# Altium footprint library BEESC_footprints.PcbLib: 20 footprints (part 1 of 2)
Each footprint in its own frame and in the unit in brackets; x right, y up, seen from the top. Pads: shape width x height; smd on the part's side, far side on the other; paste and mask are expansions set on the pad; w line width, h text height; cw(c..) or ccw(c..) is an arc to the next point about the centre after c.
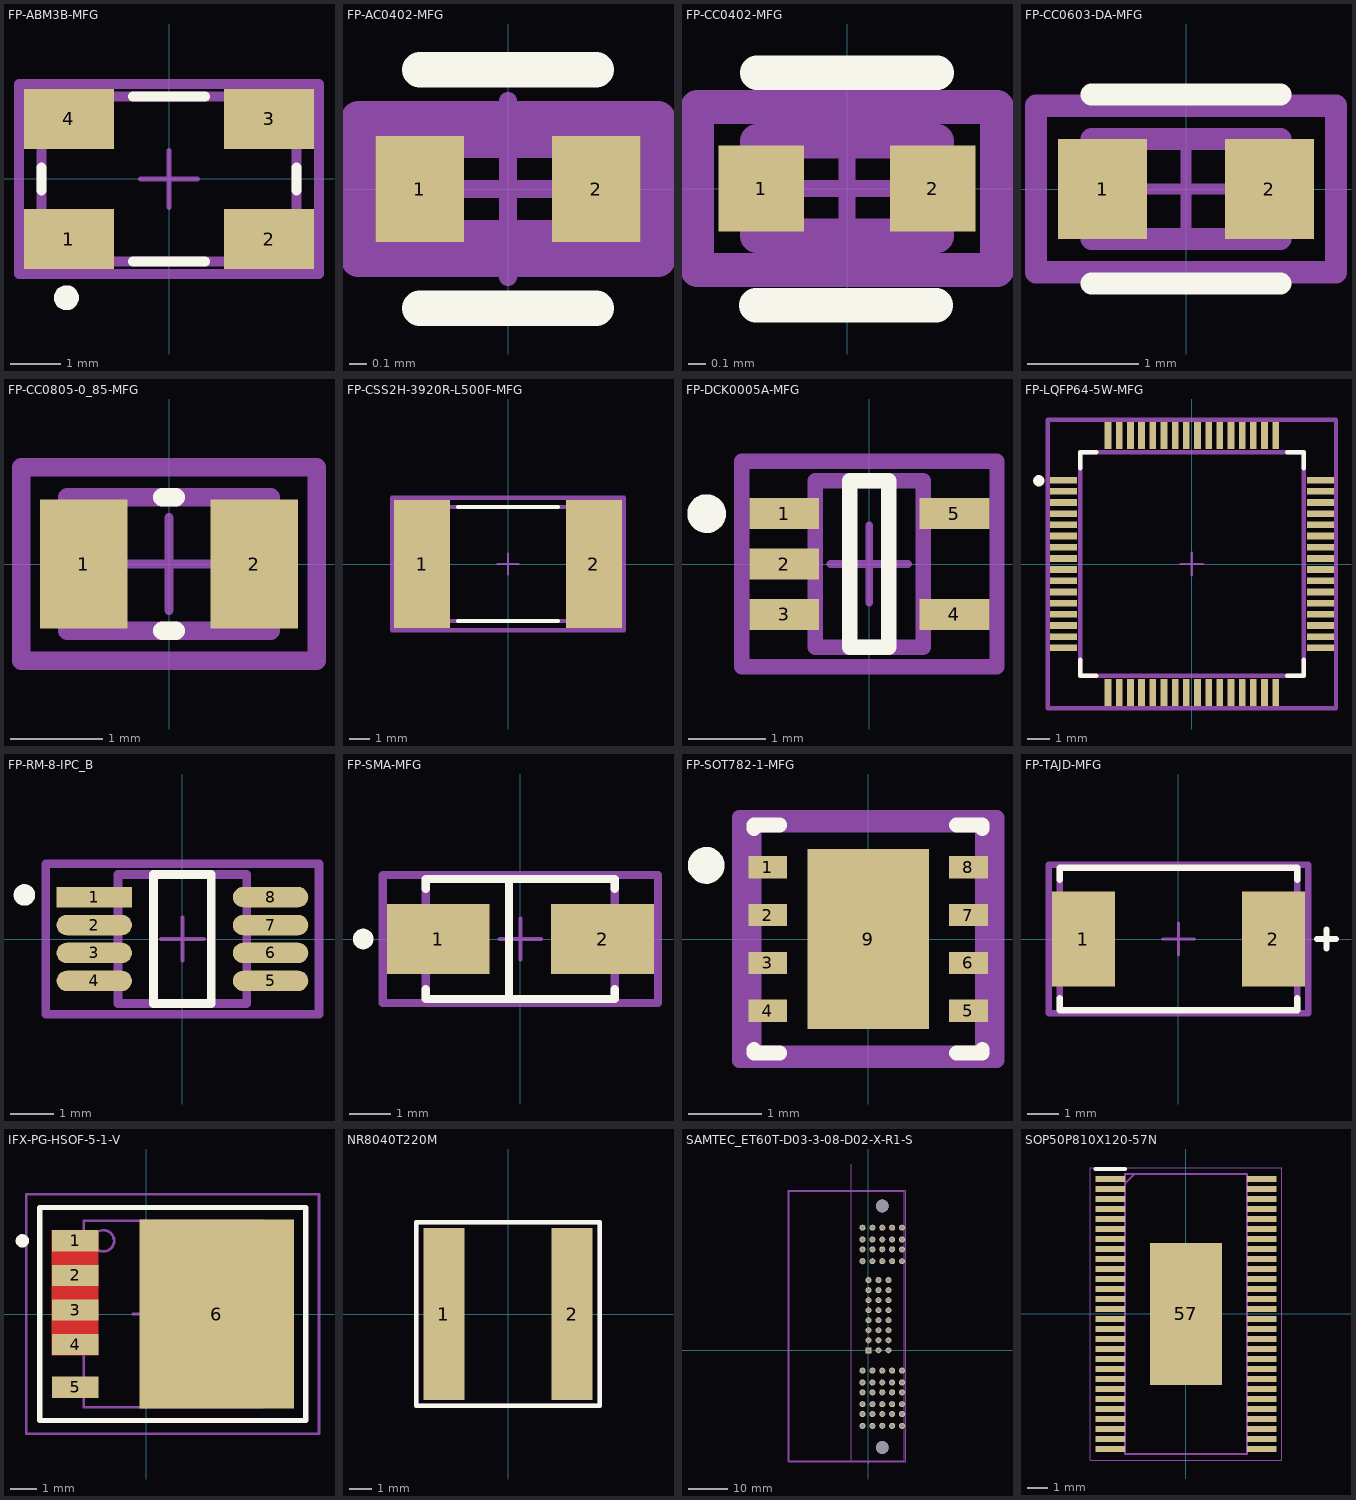
[diagram p0: the footprints below, top view; thin cyan lines are the x and y axes]

## FP-ABM3B-MFG [mm]
pads (4):
  rect 1.8x1.2 smd paste+0 mask+0: 1(-2,-1.2) 2(2,-1.2) 3(2,1.2) 4(-2,1.2)
Top Overlay:
  circle w0.25: c-2.05,-2.375 r0.125
  lines w0.2: -2.55,-0.225 -2.55,0.225 ; -0.725,-1.65 0.725,-1.65 ; -0.725,1.65 0.725,1.65 ; 2.55,-0.225 2.55,0.225
Top Assembly:
  lines w0.2: -3,-1.9 -3,1.9 3,1.9 3,-1.9 -3,-1.9
Top 3D Body:
  lines w0.2: -2.55,-1.65 -2.55,1.65 2.55,1.65 2.55,-1.65 -2.55,-1.65
Top Courtyard:
  lines w0.2: -3,-1.9 -3,1.9 3,1.9 3,-1.9 -3,-1.9
Top Component Center:
  lines w0.1: -0.57,0 0.57,0 ; 0,-0.57 0,0.57
3D body "Crys_Abracon_ABM3B-12_000MHZ-10-B-1-U-T_eec.STEP": height 0.25, standoff 0, extent -3,-1.9 3,1.9

## FP-AC0402-MFG [mm]
pads (2):
  rect 0.5x0.6 smd paste+0 mask+0: 1(-0.5,0) 2(0.5,0)
Top Overlay:
  lines w0.2: -0.5,-0.675 0.5,-0.675 ; -0.5,0.675 0.5,0.675
Top Assembly:
  lines w0.2: -0.85,-0.4 -0.85,0.4 0.85,0.4 0.85,-0.4 -0.85,-0.4
Top 3D Body:
  lines w0.2: -0.525,-0.275 -0.525,0.275 0.525,0.275 0.525,-0.275 -0.525,-0.275
Top Courtyard:
  lines w0.2: -0.85,-0.4 -0.85,0.4 0.85,0.4 0.85,-0.4 -0.85,-0.4
Top Component Center:
  lines w0.1: -0.5,0 0.5,0 ; 0,-0.5 0,0.5
3D body "Res_Yageo_AC0402FR-0716R2L_eec.STEP": height 0.25, standoff 0, extent -0.85,-0.4 0.85,0.4

## FP-CC0402-MFG [mm]
pads (2):
  rect 0.5x0.5 smd paste+0 mask+0: 1(-0.5,0) 2(0.5,0)
Top Overlay:
  lines w0.2: -0.53,-0.681 0.52,-0.681 ; -0.525,0.675 0.525,0.675
Top Assembly:
  lines w0.2: -0.875,-0.475 0.875,-0.475 0.875,0.475 -0.875,0.475 -0.875,-0.475
Top 3D Body:
  lines w0.2: -0.525,-0.275 0.525,-0.275 0.525,0.275 -0.525,0.275 -0.525,-0.275
Top Courtyard:
  lines w0.2: -0.875,-0.475 0.875,-0.475 0.875,0.475 -0.875,0.475 -0.875,-0.475
Top Component Center:
  lines w0.1: -0.5,0 0.5,0 ; 0,-0.5 0,0.5
3D body "Cap_YAGEO_CC0402KRX7R9BB101_eec.STEP": height 0.25, standoff 0, extent -0.875,-0.475 0.875,0.475

## FP-CC0603-DA-MFG [mm]
pads (2):
  rect 0.8x0.9 smd paste+0 mask+0: 1(-0.75,0) 2(0.75,0)
Top Overlay:
  lines w0.2: -0.85,-0.85 0.85,-0.85 ; -0.85,0.85 0.85,0.85
Top Assembly:
  lines w0.2: -1.35,-0.75 1.35,-0.75 1.35,0.75 -1.35,0.75 -1.35,-0.75
Top 3D Body:
  lines w0.2: -0.85,-0.45 0.85,-0.45 0.85,0.45 -0.85,0.45 -0.85,-0.45
Top Courtyard:
  lines w0.2: -1.35,-0.75 1.35,-0.75 1.35,0.75 -1.35,0.75 -1.35,-0.75
Top Component Center:
  lines w0.1: -0.5,0 0.5,0 ; 0,-0.5 0,0.5
3D body "Cap_YAGEO_CC0603KRX7R9BB271_eec.STEP": height 0.25, standoff 0, extent -1.35,-0.75 1.35,0.75

## FP-CC0805-0_85-MFG [mm]
pads (2):
  rect 0.95x1.4 smd paste+0 mask+0: 1(-0.925,0) 2(0.925,0)
Top Overlay:
  lines w0.2: -0.075,-0.725 0.075,-0.725 ; -0.075,0.725 0.075,0.725
Top Assembly:
  lines w0.2: -1.6,-1.05 1.6,-1.05 1.6,1.05 -1.6,1.05 -1.6,-1.05
Top 3D Body:
  lines w0.2: -1.1,-0.725 1.1,-0.725 1.1,0.725 -1.1,0.725 -1.1,-0.725
Top Courtyard:
  lines w0.2: -1.6,-1.05 1.6,-1.05 1.6,1.05 -1.6,1.05 -1.6,-1.05
Top Component Center:
  lines w0.1: -0.5,0 0.5,0 ; 0,-0.5 0,0.5
3D body "Cap_Yageo_CC0805KKX7R7BB105_eec.STEP": height 0.25, standoff 0, extent -1.6,-1.05 1.6,1.05

## FP-CSS2H-3920R-L500F-MFG [mm]
pads (2):
  rect 2.7x6.2 smd paste+0 mask+0: 1(-4.15,0) 2(4.15,0)
Top Overlay:
  lines w0.2: -2.425,-2.75 2.425,-2.75 ; -2.425,2.75 2.425,2.75
Top Assembly:
  lines w0.2: -5.6,-3.2 -5.6,3.2 5.6,3.2 5.6,-3.2 -5.6,-3.2
Top 3D Body:
  lines w0.2: -5.15,-2.75 -5.15,2.75 5.15,2.75 5.15,-2.75 -5.15,-2.75
Top Courtyard:
  lines w0.2: -5.6,-3.2 -5.6,3.2 5.6,3.2 5.6,-3.2 -5.6,-3.2
Top Component Center:
  lines w0.1: -0.5,0 0.5,0 ; 0,-0.5 0,0.5
3D body "Res_Bourns_CSS2H-3920R-L500F_eec.STEP": height 0.25, standoff 0, extent -5.6,-3.2 5.6,3.2

## FP-DCK0005A-MFG [mm]
pads (5):
  rect 0.9x0.4 smd paste-1000 mask+0: 1(-1.1,0.65) 2(-1.1,0) 3(-1.1,-0.65) 4(1.1,-0.65) 5(1.1,0.65)
Top Overlay:
  circle w0.25: c-2.1,0.65 r0.125
  lines w0.2: -0.25,-1.075 -0.25,1.075 0.25,1.075 0.25,-1.075 -0.25,-1.075
Top Paste:
  rectangle: -1.525,0.475 -0.675,0.825
  rectangle: -1.525,-0.175 -0.675,0.175
  rectangle: -1.525,-0.825 -0.675,-0.475
  rectangle: 0.675,0.475 1.525,0.825
  rectangle: 0.675,-0.825 1.525,-0.475
Top Assembly:
  lines w0.2: -1.65,-1.325 -1.65,1.325 1.65,1.325 1.65,-1.325 -1.65,-1.325
Top 3D Body:
  lines w0.2: -0.7,-1.075 -0.7,1.075 0.7,1.075 0.7,-1.075 -0.7,-1.075
Top Courtyard:
  lines w0.2: -1.65,-1.325 -1.65,1.325 1.65,1.325 1.65,-1.325 -1.65,-1.325
Top Component Center:
  lines w0.1: -0.5,0 0.5,0 ; 0,-0.5 0,0.5
3D body "IC_Texas_Instruments_SN74LVC1G86DCKR_eec.STEP": height 0.25, standoff 0, extent -1.65,-1.325 1.65,1.325

## FP-LQFP64-5W-MFG [mm]
pads (64):
  rect 1.2x0.3 smd paste+0 mask+0: 1(-5.75,3.75) 2(-5.75,3.25) 3(-5.75,2.75) 4(-5.75,2.25) 5(-5.75,1.75) 6(-5.75,1.25) 7(-5.75,0.75) 8(-5.75,0.25) 9(-5.75,-0.25) 10(-5.75,-0.75) 11(-5.75,-1.25) 12(-5.75,-1.75) 13(-5.75,-2.25) 14(-5.75,-2.75) 15(-5.75,-3.25) 16(-5.75,-3.75) 33(5.75,-3.75) 34(5.75,-3.25) 35(5.75,-2.75) 36(5.75,-2.25) 37(5.75,-1.75) 38(5.75,-1.25) 39(5.75,-0.75) 40(5.75,-0.25) 41(5.75,0.25) 42(5.75,0.75) 43(5.75,1.25) 44(5.75,1.75) 45(5.75,2.25) 46(5.75,2.75) 47(5.75,3.25) 48(5.75,3.75)
  rect 0.3x1.2 smd paste+0 mask+0: 17(-3.75,-5.75) 18(-3.25,-5.75) 19(-2.75,-5.75) 20(-2.25,-5.75) 21(-1.75,-5.75) 22(-1.25,-5.75) 23(-0.75,-5.75) 24(-0.25,-5.75) 25(0.25,-5.75) 26(0.75,-5.75) 27(1.25,-5.75) 28(1.75,-5.75) 29(2.25,-5.75) 30(2.75,-5.75) 31(3.25,-5.75) 32(3.75,-5.75) 49(3.75,5.75) 50(3.25,5.75) 51(2.75,5.75) 52(2.25,5.75) 53(1.75,5.75) 54(1.25,5.75) 55(0.75,5.75) 56(0.25,5.75) 57(-0.25,5.75) 58(-0.75,5.75) 59(-1.25,5.75) 60(-1.75,5.75) 61(-2.25,5.75) 62(-2.75,5.75) 63(-3.25,5.75) 64(-3.75,5.75)
Top Overlay:
  circle w0.25: c-6.85,3.725 r0.125
  lines w0.2: -5,-4.275 -5,-5 -4.275,-5 ; -5,4.275 -5,5 -4.275,5 ; 4.275,-5 5,-5 5,-4.275 ; 4.275,5 5,5 5,4.275
Top Assembly:
  lines w0.2: -6.45,-6.45 6.45,-6.45 6.45,6.45 -6.45,6.45 -6.45,-6.45
Top 3D Body:
  lines w0.2: -5,-5 5,-5 5,5 -5,5 -5,-5
Top Courtyard:
  lines w0.2: -6.45,-6.45 6.45,-6.45 6.45,6.45 -6.45,6.45 -6.45,-6.45
Top Component Center:
  lines w0.1: -0.5,0 0.5,0 ; 0,-0.5 0,0.5
3D body "IC_STMicroelectronics_STM32L431RCT6_eec.STEP": height 0.25, standoff 0, extent -6.45,-6.45 6.45,6.45

## FP-RM-8-IPC_B [mm]
pads (8):
  rect 1.754x0.476 smd paste+0 mask+0: 1(-2.05,0.975)
  rrect100% 1.754x0.476 smd paste+0 mask+0: 2(-2.05,0.325) 3(-2.05,-0.325) 4(-2.05,-0.975) 5(2.05,-0.975) 6(2.05,-0.325) 7(2.05,0.325) 8(2.05,0.975)
Top Overlay:
  circle w0.25: c-3.677,1.025 r0.125
  lines w0.2: -0.673,-1.5 0.673,-1.5 0.673,1.5 -0.673,1.5 -0.673,-1.5
Top Assembly:
  lines w0.2: -3.177,-1.75 3.177,-1.75 3.177,1.75 -3.177,1.75 -3.177,-1.75
Top 3D Body:
  lines w0.2: -1.5,-1.5 1.5,-1.5 1.5,1.5 -1.5,1.5 -1.5,-1.5
Top Courtyard:
  lines w0.2: -3.177,-1.75 3.177,-1.75 3.177,1.75 -3.177,1.75 -3.177,-1.75
Top Component Center:
  lines w0.1: -0.5,0 0.5,0 ; 0,-0.5 0,0.5
3D body "IC_Analog_Devices_AD8418BRMZ_eec.STEP": height 0.25, standoff 0, extent -3.177,-1.75 3.177,1.75

## FP-SMA-MFG [mm]
pads (2):
  rect 2.5x1.7 smd paste+0 mask+0: 1(-2,0) 2(2,0)
Top Overlay:
  circle w0.25: c-3.825,0 r0.125
  lines w0.2: -2.3,-1.225 -2.3,-1.46 2.3,-1.46 2.3,-1.225 ; -2.3,1.225 -2.3,1.46 2.3,1.46 2.3,1.225 ; -0.275,-1.35 -0.275,1.35
Top Assembly:
  lines w0.2: -3.35,-1.56 3.35,-1.56 3.35,1.56 -3.35,1.56 -3.35,-1.56
Top 3D Body:
  lines w0.2: -2.3,-1.46 2.3,-1.46 2.3,1.46 -2.3,1.46 -2.3,-1.46
Top Courtyard:
  lines w0.2: -3.35,-1.56 3.35,-1.56 3.35,1.56 -3.35,1.56 -3.35,-1.56
Top Component Center:
  lines w0.1: -0.5,0 0.5,0 ; 0,-0.5 0,0.5
3D body "Diode_Diodes_Inc_SMAJ5_0A-13-F_eec.STEP": height 0.25, standoff 0, extent -3.35,-1.56 3.35,1.56

## FP-SOT782-1-MFG [mm]
pads (9):
  rect 0.525x0.3 smd paste+0 mask+0: 1(-1.362,0.975) 2(-1.362,0.325) 3(-1.362,-0.325) 4(-1.362,-0.975) 5(1.362,-0.975) 6(1.362,-0.325) 7(1.362,0.325) 8(1.362,0.975)
  rect 1.65x2.45 smd paste-1000 mask+0: 9(0,0)
Top Overlay:
  circle w0.25: c-2.2,1 r0.125
  lines w0.2: -1.55,-1.5 -1.55,-1.55 -1.2,-1.55 ; -1.55,1.5 -1.55,1.55 -1.2,1.55 ; 1.2,-1.55 1.55,-1.55 1.55,-1.5 ; 1.2,1.55 1.55,1.55 1.55,1.5
Top Paste:
  rectangle: -0.325,-0.55 0.325,0.55
Top Assembly:
  lines w0.2: -1.75,-1.65 1.75,-1.65 1.75,1.65 -1.75,1.65 -1.75,-1.65
Top 3D Body:
  lines w0.2: -1.55,-1.55 1.55,-1.55 1.55,1.55 -1.55,1.55 -1.55,-1.55
Top Courtyard:
  lines w0.2: -1.75,-1.65 1.75,-1.65 1.75,1.65 -1.75,1.65 -1.75,-1.65
Top Component Center:
  lines w0.1: -0.5,0 0.5,0 ; 0,-0.5 0,0.5
3D body "IC_NXP_TJA1051TK-3-1J_eec.STEP": height 0.25, standoff 0, extent -1.75,-1.65 1.75,1.65

## FP-TAJD-MFG [mm]
pads (2):
  rect 2x3 smd paste+0 mask+0: 1(-3,0) 2(3,0)
Top Overlay:
  lines w0.2: -3.75,-1.875 -3.75,-2.25 3.75,-2.25 3.75,-1.875 ; -3.75,1.875 -3.75,2.25 3.75,2.25 3.75,1.875 ; 4.375,0 4.975,0 ; 4.675,-0.3 4.675,0.3
Top Assembly:
  lines w0.2: -4.1,-2.35 -4.1,2.35 4.1,2.35 4.1,-2.35 -4.1,-2.35
Top 3D Body:
  lines w0.2: -3.75,-2.25 -3.75,2.25 3.75,2.25 3.75,-2.25 -3.75,-2.25
Top Courtyard:
  lines w0.2: -4.1,-2.35 -4.1,2.35 4.1,2.35 4.1,-2.35 -4.1,-2.35
Top Component Center:
  lines w0.1: -0.5,0 0.5,0 ; 0,-0.5 0,0.5
3D body "Cap_AVX_TAJD108K004RNJ_eec.STEP": height 0.25, standoff 0, extent -4.1,-2.35 4.1,2.35

## IFX-PG-HSOF-5-1-V [mm] "HSOF;SMD, 6 pin, 6.70mm L X 7.00mm W X 2.30mm H body"
height 2.3
pads (6):
  rect 1.75x0.8 smd paste-0.05 mask+0: 1(-2.663,2.75) 2(-2.663,1.45) 3(-2.663,0.15) 4(-2.663,-1.15) 5(-2.663,-2.75)
  rect 5.8x7.1 smd paste-3.55 mask-3.55: 6(2.663,0)
Top Layer:
  region: -3.538,3.15 -1.788,3.15 -1.788,-1.55 -3.538,-1.55
Top Overlay:
  circle w0.25: c-4.65,2.75 r0.125
  lines w0.2: -4,-4 6,-4 6,4 -4,4 -4,-4
Top Paste:
  region: 2.913,0.2 2.913,2.9 3.913,2.9 3.913,0.2
  region: 2.913,-2.9 2.913,-0.2 3.913,-0.2 3.913,-2.9
  region: 1.413,-3.2 1.413,-0.2 2.413,-0.2 2.413,-3.2
  region: 1.413,0.2 1.413,3.2 2.413,3.2 2.413,0.2
  region: -0.087,0.2 -0.087,3.2 0.913,3.2 0.913,0.2
  region: -0.087,-3.2 -0.087,-0.2 0.913,-0.2 0.913,-3.2
  region: 4.413,-3.45 4.413,-0.2 5.413,-0.2 5.413,-3.45
  region: 4.413,0.2 4.413,3.45 5.413,3.45 5.413,0.2
Top Solder:
  region: -1.793,-1.55 -2.143,-1.55 -2.143,-0.75 -2.143,-0.25 -2.143,0.55 -2.143,1.05 -2.143,1.85 -2.143,2.35 -2.143,3.15 -1.793,3.15
  region: -0.238,3.3 2.462,3.3 2.462,3 4.312,3 4.312,3.55 5.562,3.55 5.562,-3.55 4.312,-3.55 4.312,-3 2.462,-3 2.462,-3.3 -0.238,-3.3
Mechanical 3:
  text ".DESIGNATOR" at 0,0 h1.2
Top 3D Body:
  circle w0.1: c-1.6,2.75 r0.4
  lines w0.1: -2.338,-3.5 -2.338,3.5 4.362,3.5 4.362,-3.5 -2.338,-3.5
Top Courtyard:
  lines w0.1: -0.5,0 0.5,0 ; 0,-0.5 0,0.5 ; -4.5,-4.5 6.5,-4.5 6.5,4.5 -4.5,4.5 -4.5,-4.5
3D body "PG-HSOF-5-1.STEP": height 2.3, standoff 0, extent -2.937,-3.5 5.063,3.5

## NR8040T220M [mm]
pads (2):
  rect 1.8x7.5 smd: 1(-2.8,0) 2(2.8,0)
Top Overlay:
  lines w0.2: -4,-4 -4,4 4,4 4,-4 -4,-4
Top 3D Body:
  lines w0.2: -4,-4 4,-4 4,4 -4,4 -4,-4
3D body "NR8040T220M.stp": height 4, standoff 0, extent -4,-4 4,4

## SAMTEC_ET60T-D03-3-08-D02-X-R1-S [mm]
pads (76):
  rect 1.53x1.53 / inner round 1.53 / far side rect 1.53x1.53 hole 1.02: 01(0,0)
  round 1.53 hole 1.02: 02(0,2.54) 03(0,5.08) 04(0,7.62) 05(0,10.16) 06(0,12.7) 07(0,15.24) 08(0,17.78) 09(2.54,0) 10(2.54,2.54) 11(2.54,5.08) 12(2.54,7.62) 13(2.54,10.16) 14(2.54,12.7) 15(2.54,15.24) 16(2.54,17.78) 17(5.08,0) 18(5.08,2.54) 19(5.08,5.08) 20(5.08,7.62) 21(5.08,10.16) 22(5.08,12.7) 23(5.08,15.24) 24(5.08,17.78) P01_1(8.5,-19.17) P01_2(6,-19.17) P01_3(3.5,-19.17) P01_4(1,-19.17) P01_5(-1.5,-19.17) P01_6(-1.5,-16.17) P01_7(1,-16.17) P01_8(3.5,-16.17) P01_9(6,-16.17) P01_10(8.5,-16.17) P02_1(8.5,-13.67) P02_2(6,-13.67) P02_3(3.5,-13.67) P02_4(1,-13.67) P02_5(-1.5,-13.67) P02_6(-1.5,-10.67) P02_7(1,-10.67) P02_8(3.5,-10.67) P02_9(6,-10.67) P02_10(8.5,-10.67) P03_1(8.5,-8.17) P03_2(6,-8.17) P03_3(3.5,-8.17) P03_4(1,-8.17) P03_5(-1.5,-8.17) P03_6(-1.5,-5.17) P03_7(1,-5.17) P03_8(3.5,-5.17) P03_9(6,-5.17) P03_10(8.5,-5.17) P04_1(8.5,22.59) P04_2(6,22.59) P04_3(3.5,22.59) P04_4(1,22.59) P04_6(-1.5,25.59) P04_7(1,25.59) P04_8(3.5,25.59) P04_9(6,25.59) P04_10(8.5,25.59) P05_1(8.5,28.09) P05_2(6,28.09) P05_3(3.5,28.09) P05_4(1,28.09) P05_5(-1.5,28.09) P05_6(-1.5,31.09) P05_7(1,31.09) P05_8(3.5,31.09) P05_9(6,31.09) P05_10(8.5,31.09)
  round 1.56 hole 1.04: P04_5(-1.5,22.59)
  round 3.2 hole 3.2 unplated: ""(3.5,-24.67) ""(3.5,36.59)
Bottom Overlay:
  circle w0.2: c0,-28.74 r0.1
  lines w0.2: 9.1,-20.285 9.1,-27.99 -4.4,-27.99 -4.4,40.27 9.1,40.27 9.1,32.205 ; 9.1,-4.055 9.1,21.475
Top 3D Body:
  circle w0.2: c0,-28.74 r0.1
  lines w0.1: -4.4,47.24 -4.4,-27.99 ; -4.4,-27.99 9.1,-27.99 9.1,40.27 -20.15,40.27 -20.15,-27.99 -4.4,-27.99
  text "PCB EDGE" at -4.2,41.21 h0.81
Top Courtyard:
  lines w0.05: -20.4,-28.24 -20.4,40.52 9.515,40.52 9.515,-28.24 -20.4,-28.24
3D body "ET60T-D03-3-08-D02-L-R1-S.stp": height 2.46, standoff -12, extent -20.203,-27.87 9.047,40.39

## SOP50P810X120-57N [mm]
pads (57):
  rect 1.475x0.3 smd: 1(-3.788,6.75) 2(-3.788,6.25) 3(-3.788,5.75) 4(-3.788,5.25) 5(-3.788,4.75) 6(-3.788,4.25) 7(-3.788,3.75) 8(-3.788,3.25) 9(-3.788,2.75) 10(-3.788,2.25) 11(-3.788,1.75) 12(-3.788,1.25) 13(-3.788,0.75) 14(-3.788,0.25) 15(-3.788,-0.25) 16(-3.788,-0.75) 17(-3.788,-1.25) 18(-3.788,-1.75) 19(-3.788,-2.25) 20(-3.788,-2.75) 21(-3.788,-3.25) 22(-3.788,-3.75) 23(-3.788,-4.25) 24(-3.788,-4.75) 25(-3.788,-5.25) 26(-3.788,-5.75) 27(-3.788,-6.25) 28(-3.788,-6.75) 29(3.788,-6.75) 30(3.788,-6.25) 31(3.788,-5.75) 32(3.788,-5.25) 33(3.788,-4.75) 34(3.788,-4.25) 35(3.788,-3.75) 36(3.788,-3.25) 37(3.788,-2.75) 38(3.788,-2.25) 39(3.788,-1.75) 40(3.788,-1.25) 41(3.788,-0.75) 42(3.788,-0.25) 43(3.788,0.25) 44(3.788,0.75) 45(3.788,1.25) 46(3.788,1.75) 47(3.788,2.25) 48(3.788,2.75) 49(3.788,3.25) 50(3.788,3.75) 51(3.788,4.25) 52(3.788,4.75) 53(3.788,5.25) 54(3.788,5.75) 55(3.788,6.25) 56(3.788,6.75)
  rect 3.61x7.11 smd: 57(0,0)
Top Overlay:
  lines w0.2: -4.525,7.25 -3.05,7.25
Top 3D Body:
  lines w0.1: -3.05,6.5 -2.55,7 ; -3.05,-7 -3.05,7 3.05,7 3.05,-7 -3.05,-7
Top Courtyard:
  lines w0.05: -4.775,-7.3 -4.775,7.3 4.775,7.3 4.775,-7.3 -4.775,-7.3
3D body "DRV8301DCAR.stp": height 1.2, standoff 0, extent -4.05,-7 4.05,7